# Altium footprint library GN-1846-A-V2.PcbLib: 33 footprints (part 3 of 3)
Each footprint in its own frame and in the unit in brackets; x right, y up, seen from the top. Pads: shape width x height; smd on the part's side, far side on the other; paste and mask are expansions set on the pad; w line width, h text height; cw(c..) or ccw(c..) is an arc to the next point about the centre after c.
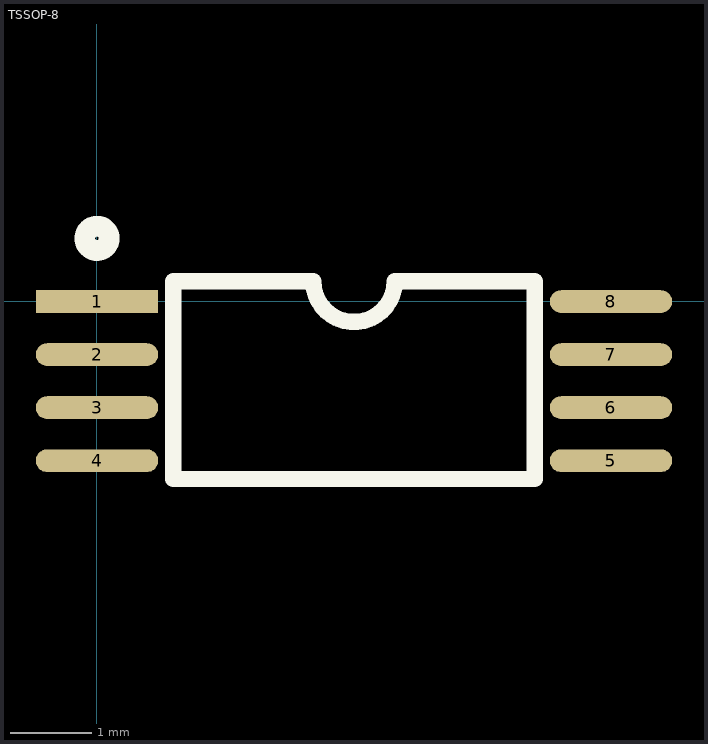
[diagram p2: the footprint, top view; thin cyan lines are the x and y axes]

## TSSOP-8 [mm]
pads (8):
  rect 1.5x0.28 smd: 1(0.006,-0.001)
  oval 1.5x0.28 smd: 2(0.006,-0.651) 3(0.006,-1.301) 4(0.006,-1.951) 5(6.306,-1.951) 6(6.306,-1.301) 7(6.306,-0.651) 8(6.306,-0.001)
Top Overlay:
  circle w0.254: c0.006,0.774 r0.15
  lines w0.2: 0.941,-2.176 0.941,0.249 2.656,0.249 ccw(c3.156,0.249) 3.656,0.249 5.371,0.249 5.371,-2.176 0.941,-2.176